# Altium footprint library PCB11.PcbLib: 40 footprints (part 1 of 3)
Each footprint in its own frame and in the unit in brackets; x right, y up, seen from the top. Pads: shape width x height; smd on the part's side, far side on the other; paste and mask are expansions set on the pad; w line width, h text height; cw(c..) or ccw(c..) is an arc to the next point about the centre after c.
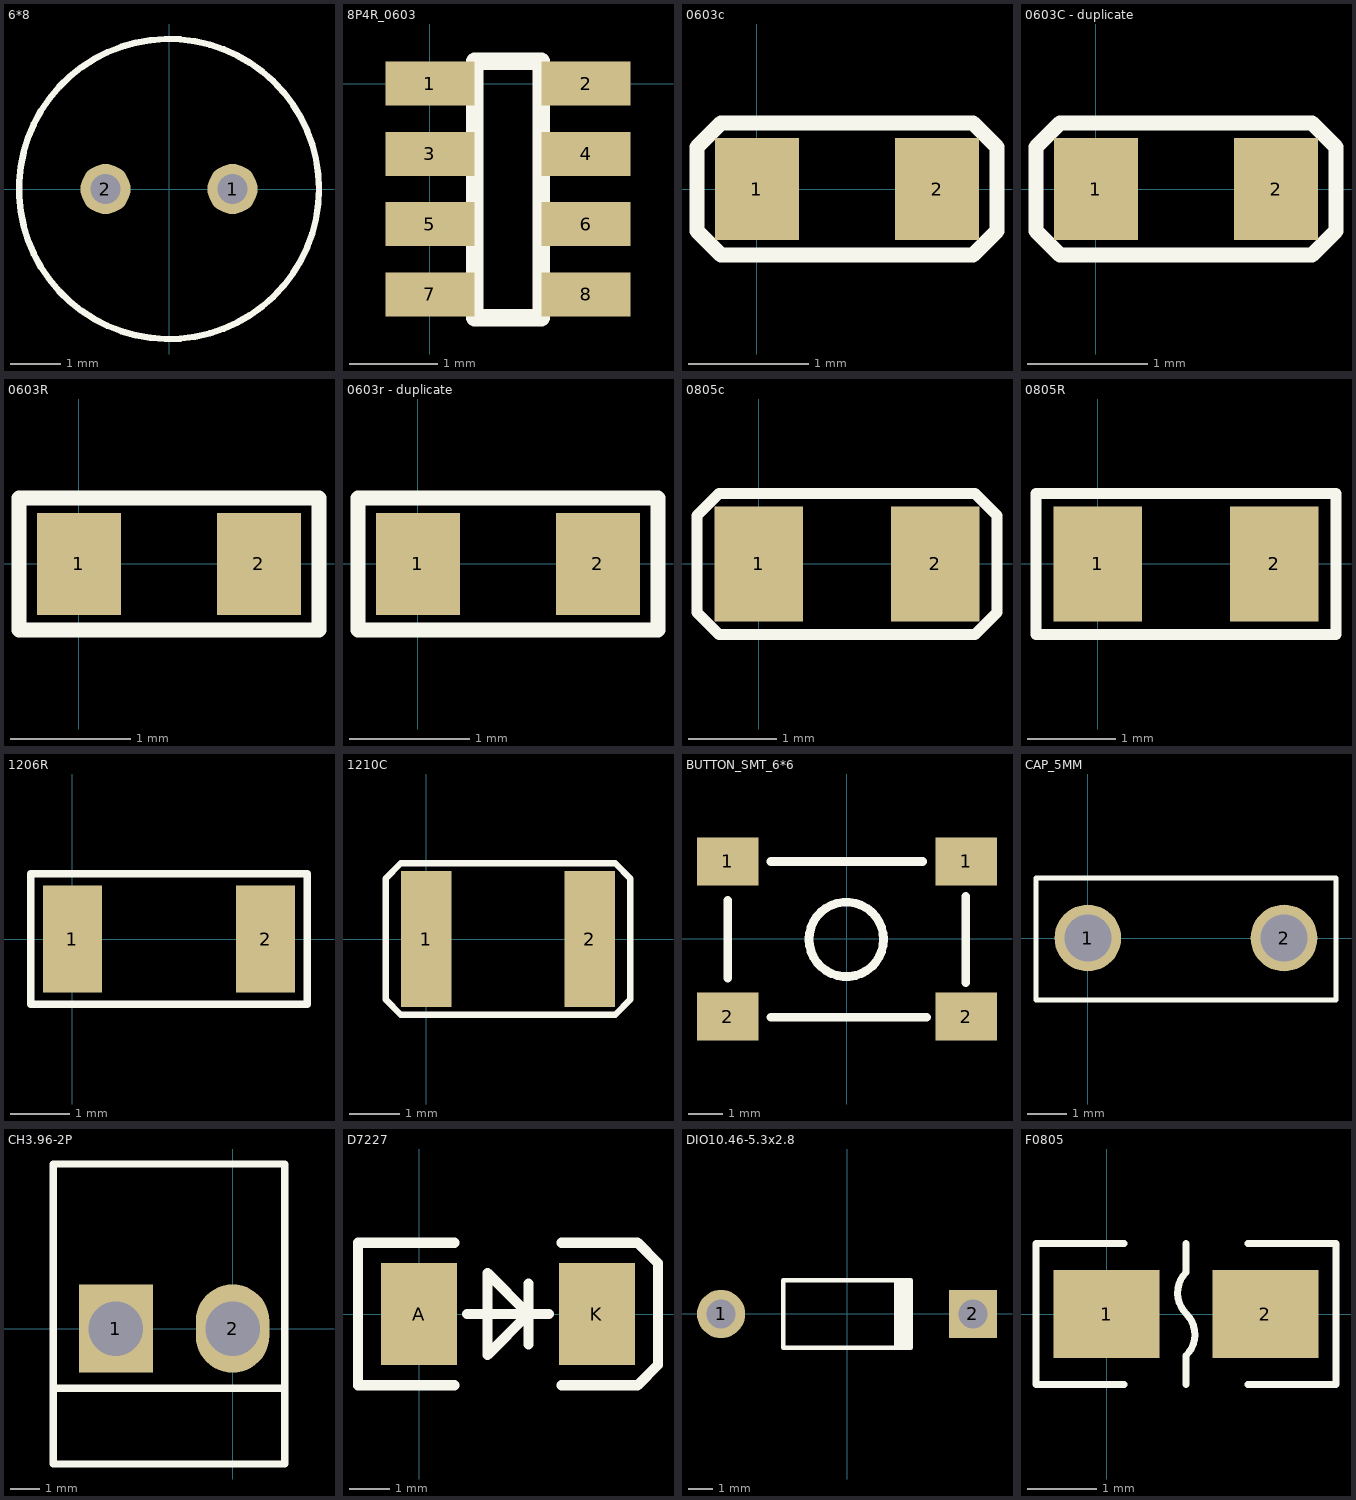
[diagram p0: the footprints below, top view; thin cyan lines are the x and y axes]

## 6*8 [mm]
height 1.1
pads (2):
  round 1 hole 0.6: 1(1.27,0) 2(-1.27,0)
Top Overlay:
  circle w0.127: c0,0 r3

## 8P4R_0603 [mil]
height 47.24
pads (8):
  rect 40x19.68 smd: 1(0,0) 2(70,0) 3(0,-31.5) 4(70,-31.5) 5(0,-62.99) 6(70,-62.99) 7(0,-94.49) 8(70,-94.49)
Top Overlay:
  lines w7.87: 20,-105 50,-105 50,10 20,10 20,-105

## 0603c [mm]
height 1.1
pads (2):
  rect 0.7x0.85 smd: 1(0,0) 2(1.5,0)
Top Overlay:
  lines w0.127: -0.5,-0.35 -0.5,0.35 -0.3,0.55 1.8,0.55 2,0.35 2,-0.35 1.8,-0.55 -0.3,-0.55 -0.5,-0.35

## 0603C - duplicate [mm]
pads (2):
  rect 0.7x0.85 smd: 1(0,0) 2(1.5,0)
Top Overlay:
  lines w0.127: -0.5,-0.35 -0.3,-0.55 1.8,-0.55 2,-0.35 2,0.35 1.8,0.55 -0.3,0.55 -0.5,0.35 -0.5,-0.35

## 0603R [mm]
height 1.1
pads (2):
  rect 0.7x0.85 smd: 1(0,0) 2(1.5,0)
Top Overlay:
  lines w0.127: -0.5,-0.55 2,-0.55 2,0.55 -0.5,0.55 -0.5,-0.55

## 0603r - duplicate [mm]
pads (2):
  rect 0.7x0.85 smd: 1(0,0) 2(1.5,0)
Top Overlay:
  lines w0.127: -0.5,-0.55 2,-0.55 2,0.55 -0.5,0.55 -0.5,-0.55

## 0805c [mm]
pads (2):
  rect 1x1.3 smd: 1(0,0) 2(2,0)
Top Overlay:
  lines w0.127: 2.45,-0.8 2.7,-0.55 2.7,0.55 2.45,0.8 -0.45,0.8 -0.7,0.55 -0.7,-0.55 -0.45,-0.8 2.45,-0.8 ; 2.45,-0.8 2.45,-0.8

## 0805R [mm]
height 1.1
pads (2):
  rect 1x1.3 smd: 1(0,0) 2(2,0)
Top Overlay:
  lines w0.127: -0.7,-0.8 -0.7,0.8 2.7,0.8 2.7,-0.8 -0.7,-0.8 ; 2.45,-0.8 2.45,-0.8

## 1206R [mm]
pads (2):
  rect 1x1.8 smd: 1(0,0) 2(3.25,0)
Top Overlay:
  lines w0.127: -0.7,-1.1 -0.7,1.1 3.95,1.1 3.95,-1.1 -0.7,-1.1

## 1210C [mm]
pads (2):
  rect 1x2.7 smd: 1(0,0) 2(3.25,0)
Top Overlay:
  lines w0.127: -0.8,-1.2 -0.8,1.2 -0.5,1.5 3.75,1.5 4.05,1.2 4.05,-1.2 3.75,-1.5 -0.5,-1.5 -0.8,-1.2

## BUTTON_SMT_6*6 [mm]
height 1.18
pads (4):
  rect 1.8x1.4 smd paste+0: 1(-3.5,2.275) 1(3.5,2.275) 2(-3.5,-2.275) 2(3.5,-2.275)
Top Overlay:
  circle w0.254: c-0.02,-0.011 r1.092
  lines w0.254: -3.5,-1.154 -3.5,0.084 -3.5,0.783 -3.5,1.132 ; -2.23,-2.297 2.342,-2.297 ; -2.23,2.275 2.215,2.275 ; 3.485,-1.281 3.485,1.259

## CAP_5MM [mm]
height 1.18
pads (2):
  round 1.7 hole 1.2: 1(0,0) 2(5,0)
Top Overlay:
  lines w0.127: -1.321,-1.575 6.325,-1.575 6.325,1.524 -1.321,1.524 -1.321,-1.575

## CH3.96-2P [mm]
pads (2):
  rect 2.5x3 hole 1.85: 1(-3.96,0)
  oval 2.5x3 hole 1.85: 2(0,0)
Top Overlay:
  lines w0.254: -6.096,-2.032 1.778,-2.032 ; -6.096,-4.6 -6.096,5.588 1.778,5.588 1.778,-4.6 -6.096,-4.6
3D body: height 10.9, standoff -3.7, extent -5.937,-3.912 1.923,4.588

## D7227 [mm]
height 1.18
pads (2):
  rect 1.905x2.54 smd: A(0,0) K(4.445,0)
Top Overlay:
  lines w0.254: 0.889,-1.778 -1.524,-1.778 -1.524,1.778 0.889,1.778 ; 1.206,0 3.238,0 ; 2.73,-0.762 2.73,0.762 ; 3.556,-1.778 5.461,-1.778 5.969,-1.27 5.969,1.27 5.461,1.778 3.556,1.778 ; 1.714,-1.016 2.73,0 1.714,1.016 1.714,-1.016
3D body: height 2.24, standoff -0.04, extent -0.559,-1.448 4.928,1.346

## DIO10.46-5.3x2.8 [mm] "Diode, Axial; Body 5.2 x 2.7 mm (LxDia. max), Lead Dia. 0.86 mm (max)"
height 2.8
pads (2):
  round 2 hole 1.2: 1(-5.23,0)
  rect 2x2 hole 1.2: 2(5.23,0)
Top Overlay:
  rectangle: 1.95,-1.4 2.75,1.4
  lines w0.2: 2.65,-1.4 -2.65,-1.4 -2.65,1.4 2.65,1.4

## F0805 [mil]
height 46.46
pads (2):
  rect 60x50 smd: 1(0,0) 2(90,0)
Top Overlay:
  lines w3.94: 10,-40 -40,-40 -40,40 10,40 ; 45,-40 45,-23.62 ccw(c33.33,-11.67) 45.28,0 cw(c56.95,11.95) 45,23.62 45,40 ; 80,-40 130,-40 130,40 80,40
3D body: height 19.68, standoff 0, extent 3.63,-23 82.37,24.24